# Altium footprint library SOP95P275X110-6N.PcbLib: 1 footprints
Each footprint in its own frame and in the unit in brackets; x right, y up, seen from the top. Pads: shape width x height; smd on the part's side, far side on the other; paste and mask are expansions set on the pad; w line width, h text height; cw(c..) or ccw(c..) is an arc to the next point about the centre after c.
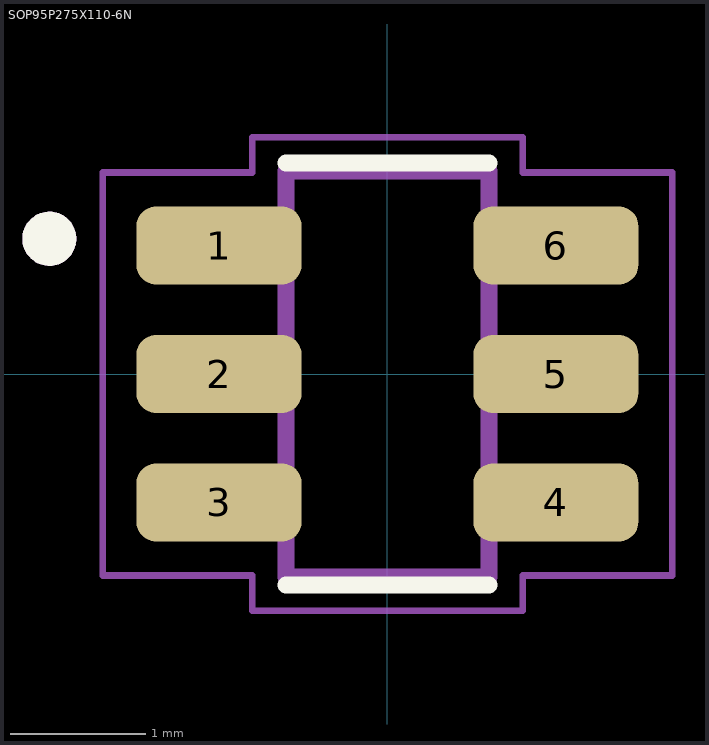
[diagram p0: the footprint, top view; thin cyan lines are the x and y axes]

## SOP95P275X110-6N [mm]
height 1.1
pads (6):
  rrect50% 1.22x0.58 smd: 1(-1.245,0.95) 2(-1.245,0) 3(-1.245,-0.95) 4(1.245,-0.95) 5(1.245,0) 6(1.245,0.95)
Top Overlay:
  circle w0.2: c-2.5,1 r0.1
  lines w0.127: -0.75,-1.56 0.75,-1.56 ; -0.75,1.56 0.75,1.56
Assembly Top:
  circle w0.2: c-2.5,1 r0.1
  lines w0.127: -0.75,-1.5 -0.75,1.5 0.75,1.5 0.75,-1.5 -0.75,-1.5
Courtyard Top:
  lines w0.05: -2.105,-1.49 -1,-1.49 -1,-1.75 1,-1.75 1,-1.49 2.105,-1.49 2.105,1.49 1,1.49 1,1.75 -1,1.75 -1,1.49 -2.105,1.49 -2.105,-1.49
3D body "step_temp.STEP": height 1.1, standoff 0, extent -1.375,-1.5 1.375,1.5